# EAGLE library part LSF0204RUTR (library LSF0204RUTR)
4-Bit Bidirectional Multi-Voltage Level Translator for Open-Drain & Push- Pull Source: Datasheet <http://www.ti.com/lit/gpn/lsf0204>
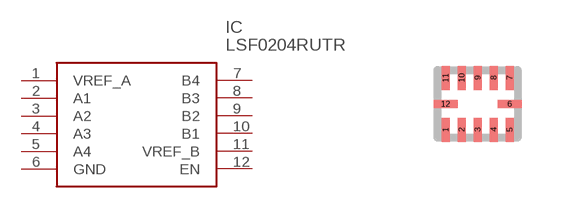
[diagram p0: symbol with the pads of RUT(R-PUQFN-N12); footprint RUT(R-PUQFN-N12)]

Designator prefix IC

## LSF0204RUTR (Description: 4-Bit Bidirectional Multi-Voltage Level Translator for Open-Drain & Push- Pull; Height: mm; Manufacturer_Name: Texas Instruments; Manufacturer_Part_Number: LSF0204RUTR; Supplier_Name: RS)  [RUT(R-PUQFN-N12)]
1  VREF_A  in
2  A1  in
3  A2  in
4  A3  in
5  A4  in
6  GND  in
7  B4  in
8  B3  in
9  B2  in
10  B1  in
11  VREF_B  in
12  EN  in

## Footprint RUT(R-PUQFN-N12) (pad centres in mm)
RUT(R-PUQFN-N12)
smd 0.2 x 0.6: 1 -0.8,-0.65; 2 -0.4,-0.65; 3 0,-0.65; 4 0.4,-0.65; 5 0.8,-0.65; 7 0.8,0.65; 8 0.4,0.65; 9 0,0.65; 10 -0.4,0.65; 11 -0.8,0.65
smd 0.6 x 0.2: 6 0.8,0; 12 -0.8,0